# EAGLE library part XIAO-RP2040 (library xiao-rp2040)
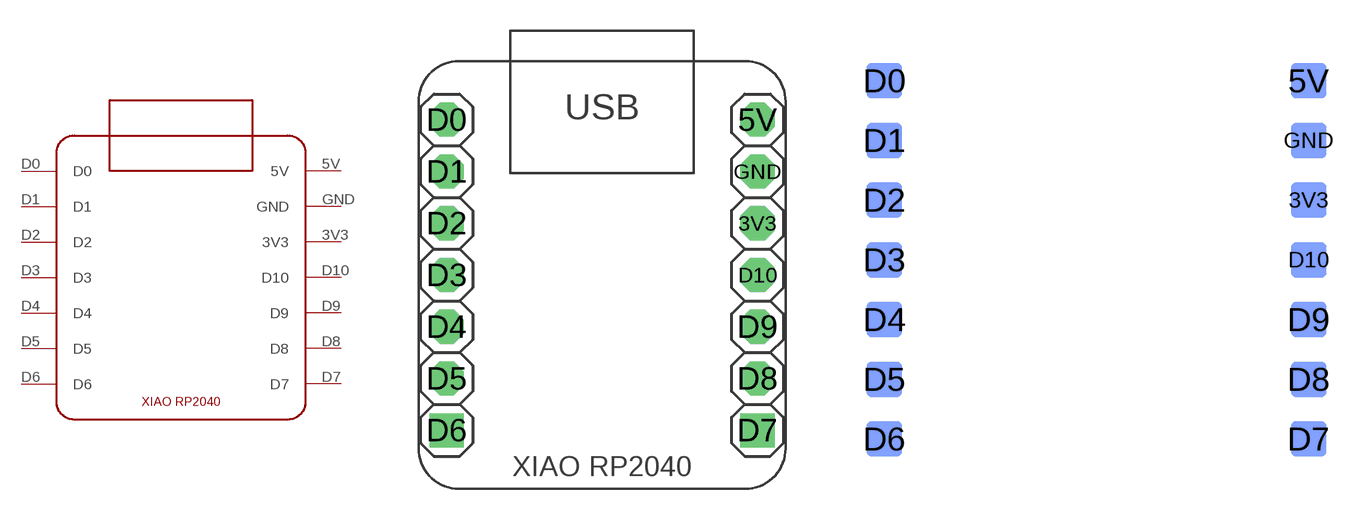
[diagram p0: symbol with the pads of XIAO-RP2040-HOLE; footprints XIAO-RP2040-HOLE, XIAO-RP2040-BSIDE-SMD]

Designator prefix -

## XIAO-RP2040  [XIAO-RP2040-HOLE]
3V3  3V3
5V  5V
D0  D0
D1  D1
D2  D2
D3  D3
D4  D4
D5  D5
D6  D6
D7  D7
D8  D8
D9  D9
D10  D10
GND  GND

## XIAO-RP2040BACK-SMD  [XIAO-RP2040-BSIDE-SMD]
Pads as for XIAO-RP2040-HOLE

## XIAO-RP2040FRONT-SMD  [XIAO-RP2040-ASIDE-SMD]
Pads as for XIAO-RP2040-HOLE

## Footprint XIAO-RP2040-HOLE (pad centres in mm)
drill 1.016 pad 1.676 octagon: 3V3 7.62,2.54; 5V 7.62,7.62; D0 -7.62,7.62; D1 -7.62,5.08; D2 -7.62,2.54; D3 -7.62,0; D4 -7.62,-2.54; D5 -7.62,-5.08; D8 7.62,-5.08; D9 7.62,-2.54; D10 7.62,0; GND 7.62,5.08
drill 1.016 pad 1.676 square: D6 -7.62,-7.62; D7 7.62,-7.62

## Footprint XIAO-RP2040-BSIDE-SMD (pad centres in mm)
smd 1.524 x 1.524 bottom: 3V3 9.017,2.54; 5V 9.017,7.62; D0 -9.017,7.62; D1 -9.017,5.08; D2 -9.017,2.54; D3 -9.017,0; D4 -9.017,-2.54; D5 -9.017,-5.08; D6 -9.017,-7.62; D7 9.017,-7.62; D8 9.017,-5.08; D9 9.017,-2.54; D10 9.017,0; GND 9.017,5.08

## Footprint XIAO-RP2040-ASIDE-SMD (pad centres in mm)
smd 1.524 x 1.524: 3V3 9.017,2.54; 5V 9.017,7.62; D0 -9.017,7.62; D1 -9.017,5.08; D2 -9.017,2.54; D3 -9.017,0; D4 -9.017,-2.54; D5 -9.017,-5.08; D6 -9.017,-7.62; D7 9.017,-7.62; D8 9.017,-5.08; D9 9.017,-2.54; D10 9.017,0; GND 9.017,5.08